# Altium schematic symbol library Header.SchLib: 16 symbols
Pins are listed as number, name and electrical type; pins without a type are passive.

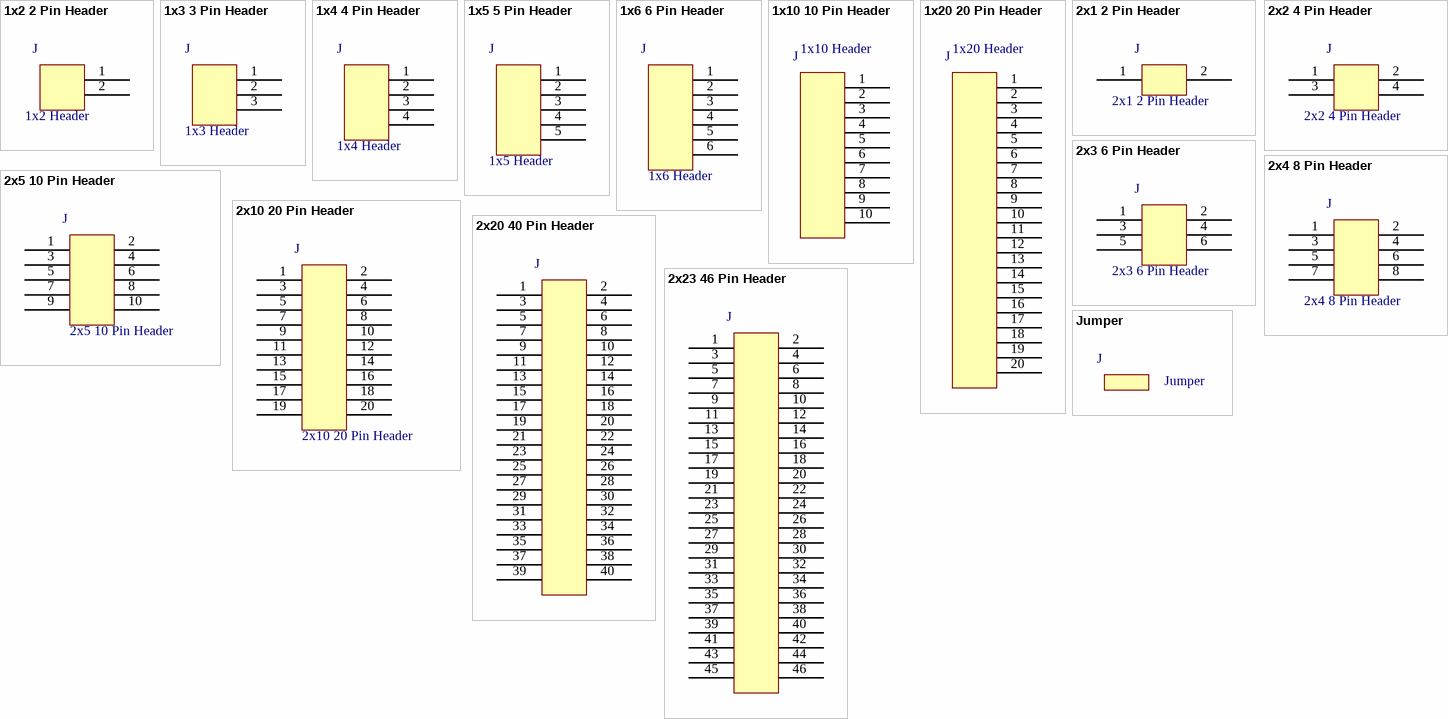
[diagram p0: symbols 1x2 2 Pin Header to Jumper]

## 1x2 2 Pin Header
designator J  value 1x2 Header  (hidden comment: *)
footprint 1x2 2 Pin Header (Footprint not found)
pins: 1, 2

## 1x3 3 Pin Header
designator J  value 1x3 Header  (hidden comment: *)
footprint 1x3 3 Pin Header
pins: 1, 2, 3

## 1x4 4 Pin Header
designator J  value 1x4 Header  (hidden comment: *)
footprint 1x4 4 Pin Header
pins: 1, 2, 3, 4

## 1x5 5 Pin Header
designator J  value 1x5 Header  (hidden comment: *)
footprint 1x5 5 Pin Header
pins: 1, 2, 3, 4, 5

## 1x6 6 Pin Header
designator J  value 1x6 Header  (hidden comment: *)
footprint 1x6 6 Pin Header (Footprint not found)
pins: 1, 2, 3, 4, 5, 6

## 1x10 10 Pin Header
designator J  value 1x10 Header  (hidden comment: *)
footprint 1x10 10 Pin Header
pins: 1, 2, 3, 4, 5, 6, 7, 8, 9, 10

## 1x20 20 Pin Header
designator J  value 1x20 Header  (hidden comment: *)
footprint 1x20 20 Pin Header
pins: 1, 2, 3, 4, 5, 6, 7, 8, 9, 10, 11, 12, 13, 14, 15, 16, 17, 18, 19, 20

## 2x1 2 Pin Header
designator J  value 2x1 2 Pin Header  (hidden comment: *)
footprint 2x1 2 Pin Header
pins: 1, 2

## 2x2 4 Pin Header
designator J  value 2x2 4 Pin Header  (hidden comment: *)
footprint 2x2 4 Pin Header
pins: 1, 2, 3, 4

## 2x3 6 Pin Header
designator J  value 2x3 6 Pin Header  (hidden comment: *)
footprint 2x3 6 Pin Header
pins: 1, 2, 3, 4, 5, 6

## 2x4 8 Pin Header
designator J  value 2x4 8 Pin Header  (hidden comment: *)
footprint 2x4 8 Pin Header (Footprint not found)
pins: 1, 2, 3, 4, 5, 6, 7, 8

## 2x5 10 Pin Header
designator J  value 2x5 10 Pin Header  (hidden comment: *)
footprint 2x5 10 Pin Header
footprint 2x5 10 Pin 90 Deg Header
footprint 2x5 10 Pin Header
footprint 2x5 10 Pin 90 Deg Header
footprint 2x5 10 Pin 90 Deg Header
footprint 2x5 10 Pin Header
pins: 1, 2, 3, 4, 5, 6, 7, 8, 9, 10

## 2x10 20 Pin Header
designator J  value 2x10 20 Pin Header  (hidden comment: *)
footprint 2X10 20 Pin Header
footprint 2X10 20 PIN HEADER 2
pins: 1, 2, 3, 4, 5, 6, 7, 8, 9, 10, 11, 12, 13, 14, 15, 16, 17, 18, 19, 20

## 2x20 40 Pin Header
designator J  (value not drawn)
Value: 2x20 40 Pin Header
footprint 2X20 40 Pin Header
pins: 1, 2, 3, 4, 5, 6, 7, 8, 9, 10, 11, 12, 13, 14, 15, 16, 17, 18, 19, 20, 21, 22, 23, 24, 25, 26, 27, 28, 29, 30, 31, 32, 33, 34, 35, 36, 37, 38, 39, 40

## 2x23 46 Pin Header
designator J  (value not drawn)
Value: 2x23 46 Pin Header
footprint 2X23 46 Pin Header
pins: 1, 2, 3, 4, 5, 6, 7, 8, 9, 10, 11, 12, 13, 14, 15, 16, 17, 18, 19, 20, 21, 22, 23, 24, 25, 26, 27, 28, 29, 30, 31, 32, 33, 34, 35, 36, 37, 38, 39, 40, 41, 42, 43, 44, 45, 46

## Jumper
designator J  value Jumper  (hidden comment: *)  (net tie)
Manufacturer: 3M; Manufacturer Code: 969102-0000-DA; Unit Price: 0,063 €; Farnell Code: 1908384